# Altium schematic symbol library PBL - Regulators.SCHLIB: 13 symbols
Pins are listed as number, name and electrical type; pins without a type are passive.

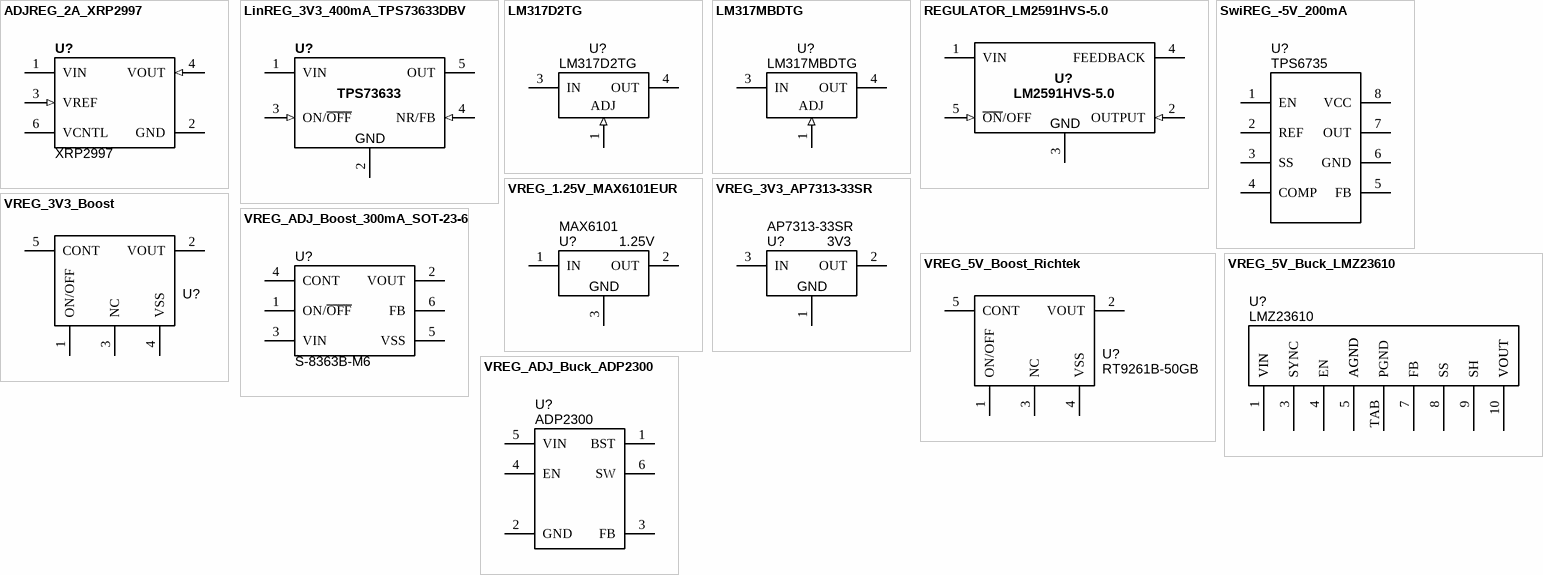
[diagram p0: symbols ADJREG_2A_XRP2997 to VREG_ADJ_Buck_ADP2300]

## ADJREG_2A_XRP2997
designator U?, comment XRP2997
IC Adjustable Regulator 2A 8-SOIC-EP SMD; Manufacturer 1: Exar Corporation; Manufacturer Part Number 1: XRP2997IDBTR-F; Voltage Regulator Type: Switching Buck; Tolerance: ±20mV; Ratings: 5.5Vin Max; Value: 3.3V; 400mA; Voltage - Input: 1.1V to 5.5V; Voltage - Dropout (Typical): 0.075V @ 400mA; Current - Output: 2A (Max); SCDType: spec; Package / Case: 8-SOIC (0.154", 3.90mm Width) Exposed Pad; Voltage - Output: Adjustable; Supplier 1: Digi-Key; Supplier Part Number 1: 1016-1702-1-ND; Operating Temperature: -40°C ~ 85°C
footprint SOIC127P600X175-9N (SOIC, 8-Leads with thermal tab, Body 4.9x3.9mm, Pitch 1.27mm, IPC Medium Density)
pins: 1 VIN (power), 2 GND (power), 3 VREF (in), 4 VOUT (in), 6 VCNTL (power), 9 GND (power) hidden to GND

## LinREG_3V3_400mA_TPS73633DBV
designator U?, comment 3.3V  (value not drawn)
IC LDO Regulator 3.3V 400mA SOT23-5 SMD; Manufacturer 1: Texas Instruments; Manufacturer Part Number 1: TPS73633DBVT; Voltage Regulator Type: Switching Buck; Tolerance: ±0.5%; Ratings: 5.5Vin Max; Value: 3.3V; 400mA; Regulator Topology: Positive Fixed; Voltage - Input: 3.5V to 5.5V; Voltage - Dropout (Typical): 0.075V @ 400mA; Current - Output: 400mA (Max); SCDType: spec; Package / Case: SOT23-5; Supplier 1: Digi-Key; Supplier Part Number 1: 296-15819-1-ND; Voltage - Output: 3.3V; Current - Limit (Min): 400mA; ComponentLink1URL: http://www.ti.com/lit/ds/symlink/tps73601.pdf; ComponentLink1Description: http://www.ti.com/lit/ds/symlink/tps73601.pdf
footprint SOT23-5
pins: 1 VIN (power), 2 GND (power), 3 ON/~{OFF} (in), 4 NR/FB (in), 5 OUT (power)
text: TPS73633

## LM317D2TG
designator U?, comment Manufacturer Part Number 1: LM317D2TG  (hidden comment: Adjustable)
Voltage Regulator IC, D2PAK SMD, LM317D2TG; Manufacturer 1: ON Semiconductor; Voltage Regulator Type: Adjustable Positive Linear; Tolerance: 0.04%; Ratings: 40V; 1.5A; Value: variable; SCDType: spec*; Package / Case: D2PAK; Supplier 1: Digi-Key; Supplier Part Number 1: LM317D2TGOS-ND
footprint D2PAK-3 (D-PAK/TO-263-3; 3 Leads (1 Cropped); Body 14.7 (inc. leads) x 10.2 mm (LxW max))
pins: 1 ADJ (in), 3 IN (power), 4 OUT (power)

## LM317MBDTG
designator U?, comment Manufacturer Part Number 1: LM317MBDTG  (hidden comment: Adjustable)
Voltage Regulator IC, DPAK SMD, LM317MBDTG; Manufacturer 1: ON Semiconductor; Voltage Regulator Type: Adjustable Positive Linear; Tolerance: 0.04%; Ratings: 40V in-out; 500mA; Value: variable; SCDType: spec\; Package / Case: DPAK/TO-252; Supplier 1: Digi-Key; Supplier Part Number 1: LM317MBDTGOS-ND
footprint TO-252 (D-PAK/TO-252-AA; 3 Leads (1 Cropped); Body 10.3 (inc. leads) x 6.7 mm (LxW max))
pins: 1 ADJ (in), 3 IN (power), 4 OUT (power)

## REGULATOR_LM2591HVS-5.0
designator U?, comment Manufacturer Part Number 1: LM2591HVS-5.0  (hidden comment: Adjustable)
Switching Voltage Regulator IC, TO-263-5 SMD, LM2591HVS-5.0; Manufacturer 1: National Semiconductor; Voltage Regulator Type: Switching Buck; Tolerance: ±4%; Ratings: 60Vin Max; 150kHz; Value: 5V; 1A; SCDType: source; Package / Case: TO-263-5; Supplier 1: Digi-Key; Supplier Part Number 1: LM2591HVS-5.0-ND
footprint TO-263-5 (D-PAK/TO-263-5; 5 Leads; Body 14.4 (inc. leads) x 10.4 mm (LxW max))
pins: 1 VIN (power), 2 OUTPUT (in), 3 GND (power), 4 FEEDBACK (power), 5 ~{ON}/OFF (in)

## SwiREG_-5V_200mA
designator U?, comment TPS6735
IC REG 200mA -5V SOIC-8 SMD; Manufacturer 1: Texas Instruments; Manufacturer Part Number 1: TPS6735ID; Ratings: -5V @ 200mA; Output Type: Fixed; Voltage - Input: 4 V ~ 6.2 V; PWM Type: Current Mode; Frequency - Switching: 160kHz; Synchronous Rectifier: No; SCDType: spec; Supplier 1: Digi-Key; Supplier Part Number 1: 296-10982-5-ND; Type: Inverting; Voltage - Output: -5V; Operating Temperature: -40°C ~ 85°C; Supplier Device Package: 8-SOIC; ComponentLink1URL: http://www.ti.com/lit/ds/slvs141a/slvs141a.pdf; ComponentLink1Description: http://www.ti.com/lit/ds/slvs141a/slvs141a.pdf; Package / Case: 8-SOIC (0.154", 3.90mm Width)
footprint SOIC127P600X175-8AN (SOIC, 8-Leads, Body 4.9x3.9mm, Pitch 1.27mm, IPC Medium Density)
pins: 1 EN, 2 REF, 3 SS, 4 COMP, 5 FB, 6 GND, 7 OUT, 8 VCC

## VREG_1.25V_MAX6101EUR
designator U?, comment MAX6101  value 1.25V
Voltage Regulator 1.25V SOT23-3 SMD; Manufacturer 1: Maxim Integrated Products; Manufacturer Part Number 1: MAX6101EUR+T; Voltage Regulator Type: Adjustable Positive Linear; Tolerance: ±0.04%; Ratings: 40V in-out; 500mA; SCDType: spec; Package / Case: SOT23-3; Supplier 1: Digi-Key; Supplier Part Number 1: MAX6101EUR+TCT-ND
footprint SOT23-3 (SOT23, 3 pin)
pins: 1 IN (power), 2 OUT (power), 3 GND (power)

## VREG_3V3_AP7313-33SR
designator U?, comment AP7313-33SR  value 3V3
Voltage Regulator 3.3V LDO SOT23R-3 SMD; Manufacturer 1: Diodes Inc; Manufacturer Part Number 1: AP7313-33SRG-7; Voltage Regulator Type: Low Drop-Out (LDO); Tolerance: ±2%; Ratings: 6Vin; 150mA; SCDType: source; Package / Case: SOT23R-3; Supplier 1: Digi-Key; Supplier Part Number 1: AP7313-33SRG-7DICT-ND; ComponentLink1URL: http://www.diodes.com/datasheets/AP7313.pdf; ComponentLink1Description: AP7313 datasheet
footprint SOT23-3 (SOT23, 3 pin)
pins: 1 GND (power), 2 OUT (power), 3 IN (power)

## VREG_3V3_Boost
designator U?  (value not drawn)
Regulator 3.3V Step-Up Converter; Manufacturer 1: Richtek USA Inc; Manufacturer Part Number 1: RT9261B-33GB; Ratings: 3.3V; 50mA; Output Type: Fixed; Voltage - Input: Up to 7V; PWM Type: VFM; Frequency - Switching: 190kHz; Current - Output: 50mA; Synchronous Rectifier: No; SCDType: undef; Package / Case: SOT-23-5; Type: Step-Up (Boost); Voltage - Output: 3.3V; Operating Temperature: -20°C ~ 85°C; ComponentLink1URL: http://www.richtek.com/download_ds.jsp?s=267; ComponentLink1Description: RT9261B-33GB Datasheet; Supplier Part Number 1: RT9261B-33GB-ND; Supplier 1: Digi-Key
footprint SOT23-5
pins: 1 ON/OFF, 2 VOUT, 3 NC, 4 VSS, 5 CONT

## VREG_5V_Boost_Richtek
designator U?  Manufacturer Part Number 1: RT9261B-50GB  (hidden comment: *)
Regulator VFM 5.0V Step-Up DC-DC Converter; Manufacturer 1: Richtek USA Inc; Ratings: 5V; 160mA; SCDType: source; Package / Case: SOT-23-5; Material: Si; Supplier 1: Digi-Key; Supplier Part Number 1: RT9261B-50GB-ND; ComponentLink1URL: http://www.richtek.com/download_ds.jsp?s=267; ComponentLink1Description: http://www.richtek.com/download_ds.jsp?s=267
footprint SOT23-5
pins: 1 ON/OFF, 2 VOUT, 3 NC, 4 VSS, 5 CONT

## VREG_5V_Buck_LMZ23610
designator U?, comment LMZ23610
Voltage Regulator 10A 5V TO-PMOD-11; Manufacturer 1: National Semiconductor (TI); Manufacturer Part Number 1: LMZ23610TZ/NOPB; Ratings: 6Vin; 50W; Tolerance: ±0.2%; Value: Variable; SCDType: undef; Supplier 1: Digi-Key; Supplier Part Number 1: LMZ23610TZ/NOPB-ND; ComponentLink1URL: http://www.ti.com/lit/ds/symlink/lmz23610.pdf; ComponentLink1Description: http://www.ti.com/lit/ds/symlink/lmz23610.pdf
footprint NATIONALSEMI-TZA11A (National Semi TZA11A package)
pins: 1 VIN, 2 VIN, 3 SYNC, 4 EN, 5 AGND, 6 AGND, 7 FB, 8 SS, 9 SH, 10 VOUT, 11 VOUT, TAB PGND

## VREG_ADJ_Boost_300mA_SOT-23-6
designator U?  Manufacturer Part Number 1: S-8363B-M6  (hidden comment: *)
Regulator adjustable switching step-up DC-DC converter; Manufacturer 1: Seiko Instruments Inc.; Ratings: 5V; 300mA; 1.2MHz; SCDType: source; Package / Case: SOT-23-6; Supplier 1: Mouser; Supplier Part Number 1: 628-S-8363B-M6T1U2; ComponentLink1URL: http://datasheet.sii-ic.com/en/switching_regulator/S8363_E.pdf; ComponentLink1Description: http://datasheet.sii-ic.com/en/switching_regulator/S8363_E.pdf
footprint SOT23-6
pins: 1 ON/~{OFF}, 2 VOUT, 3 VIN (power), 4 CONT, 5 VSS (power), 6 FB (power)

## VREG_ADJ_Buck_ADP2300
designator U?, comment ADP2300
Regulator adjustable switching step-down DC/DC converter; Manufacturer 1: Analog Devices Inc; Manufacturer Part Number 1: ADP2300AUJZ-R7; Ratings: Adj; 1.2A; SCDType: undef; Package / Case: SOT-23-6; Supplier 1: Digi-Key; Supplier Part Number 1: ADP2300AUJZ-R7CT-ND; ComponentLink1URL: http://www.analog.com/static/imported-files/data_sheets/ADP2300_2301.pdf; ComponentLink1Description: http://www.analog.com/static/imported-files/data_sheets/ADP2300_2301.pdf
footprint SOT23-6
pins: 1 BST, 2 GND, 3 FB, 4 EN, 5 VIN, 6 SW